# Altium footprint library 21344412.PcbLib: 1 footprints
Each footprint in its own frame and in the unit in brackets; x right, y up, seen from the top. Pads: shape width x height; smd on the part's side, far side on the other; paste and mask are expansions set on the pad; w line width, h text height; cw(c..) or ccw(c..) is an arc to the next point about the centre after c.
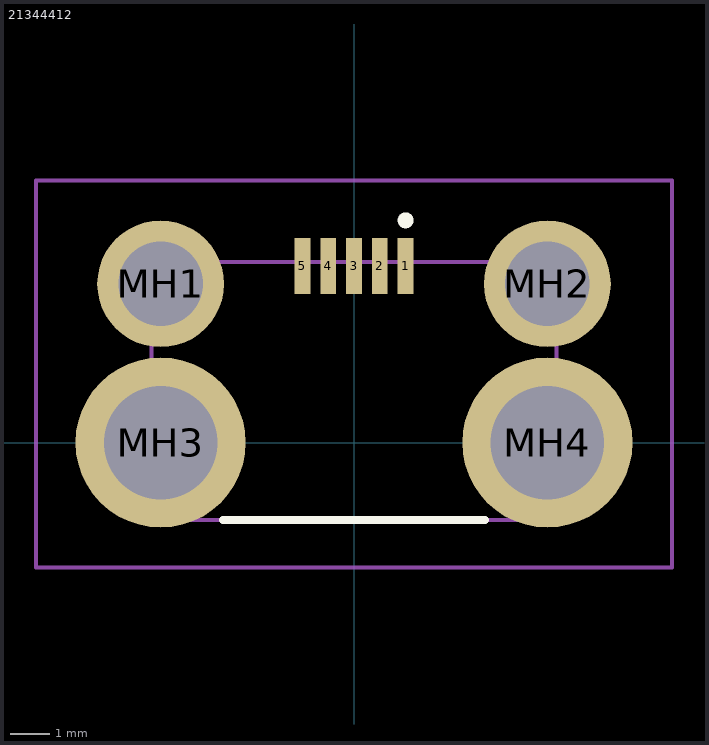
[diagram p0: the footprint, top view; thin cyan lines are the x and y axes]

## 21344412 [mm]
pads (9):
  rect 0.4x1.4 smd: 1(1.3,4.45) 2(0.65,4.45) 3(0,4.45) 4(-0.65,4.45) 5(-1.3,4.45)
  round 3.195 hole 2.13: MH1(-4.875,4) MH2(4.875,4)
  round 4.29 hole 2.86: MH3(-4.875,0) MH4(4.875,0)
Top Overlay:
  lines w0.2: -3.3,-1.95 3.3,-1.95 ; 1.3,5.5 1.3,5.5 ; 1.3,5.5 ccw(c1.3,5.6) 1.3,5.7 ; 1.3,5.5 cw(c1.3,5.6) 1.3,5.7 ; 1.3,5.7 1.3,5.7
Mechanical 15:
  lines w0.1: -5.1,-1.95 5.1,-1.95 5.1,4.55 -5.1,4.55 -5.1,-1.95
Mechanical 20:
  lines w0.1: -8.02,-3.145 8.02,-3.145 8.02,6.6 -8.02,6.6 -8.02,-3.145